# Altium schematic symbol library 10SVP4R7M.SchLib: 2 symbols
Pins are listed as number, name and electrical type; pins without a type are passive.

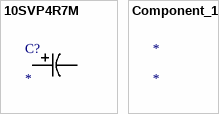
[diagram p0: symbols 10SVP4R7M to Component_1]

## 10SVP4R7M
designator C?
No Description Available; Mfr_Name: Panasonic
footprint PCAP_SVP_A5_PAN
pins: 1, 2

## Component_1
designator *